# EAGLE library part PIC16F15344 (library microchip)
IC MCU 8BIT 7KB FLASH
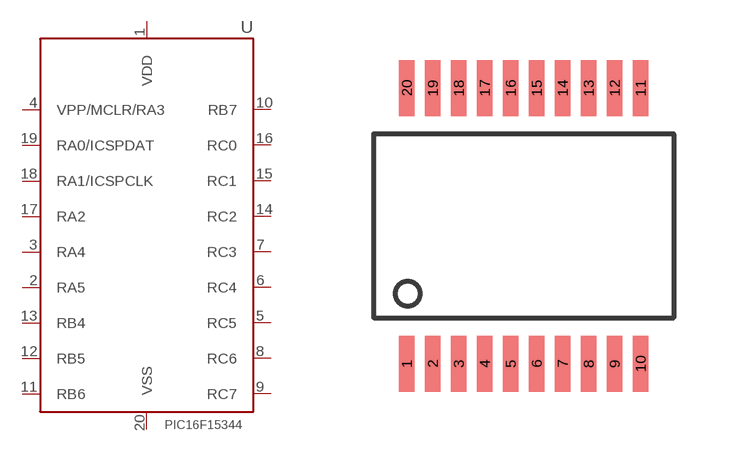
[diagram p7: symbol with the pads of SSOP-20; footprint SSOP-20]

Designator prefix U

## PIC16F15344I/SS (DIGIKEY: PIC16F15344-I/SS-ND; MFR: Microchip; MPN: PIC16F15344-I/SS; P1I: o)  [SSOP-20]
1  VDD
2  RA5
3  RA4
4  VPP/MCLR/RA3
5  RC5
6  RC4
7  RC3
8  RC6
9  RC7
10  RB7
11  RB6
12  RB5
13  RB4
14  RC2
15  RC1
16  RC0
17  RA2
18  RA1/ICSPCLK
19  RA0/ICSPDAT
20  VSS

## Footprint SSOP-20 (pad centres in mm)
smd 0.38 x 1.4: 1 -2.925,-3.45; 2 -2.275,-3.45; 3 -1.625,-3.45; 4 -0.975,-3.45; 5 -0.325,-3.45; 6 0.325,-3.45; 7 0.975,-3.45; 8 1.625,-3.45; 9 2.275,-3.45; 10 2.925,-3.45; 11 2.925,3.45; 12 2.275,3.45; 13 1.625,3.45; 14 0.975,3.45; 15 0.325,3.45; 16 -0.325,3.45; 17 -0.975,3.45; 18 -1.625,3.45; 19 -2.275,3.45; 20 -2.925,3.45